# Altium footprint library Capacitors THD.PcbLib: 270 footprints (part 8 of 17)
Each footprint in its own frame and in the unit in brackets; x right, y up, seen from the top. Pads: shape width x height; smd on the part's side, far side on the other; paste and mask are expansions set on the pad; w line width, h text height; cw(c..) or ccw(c..) is an arc to the next point about the centre after c.
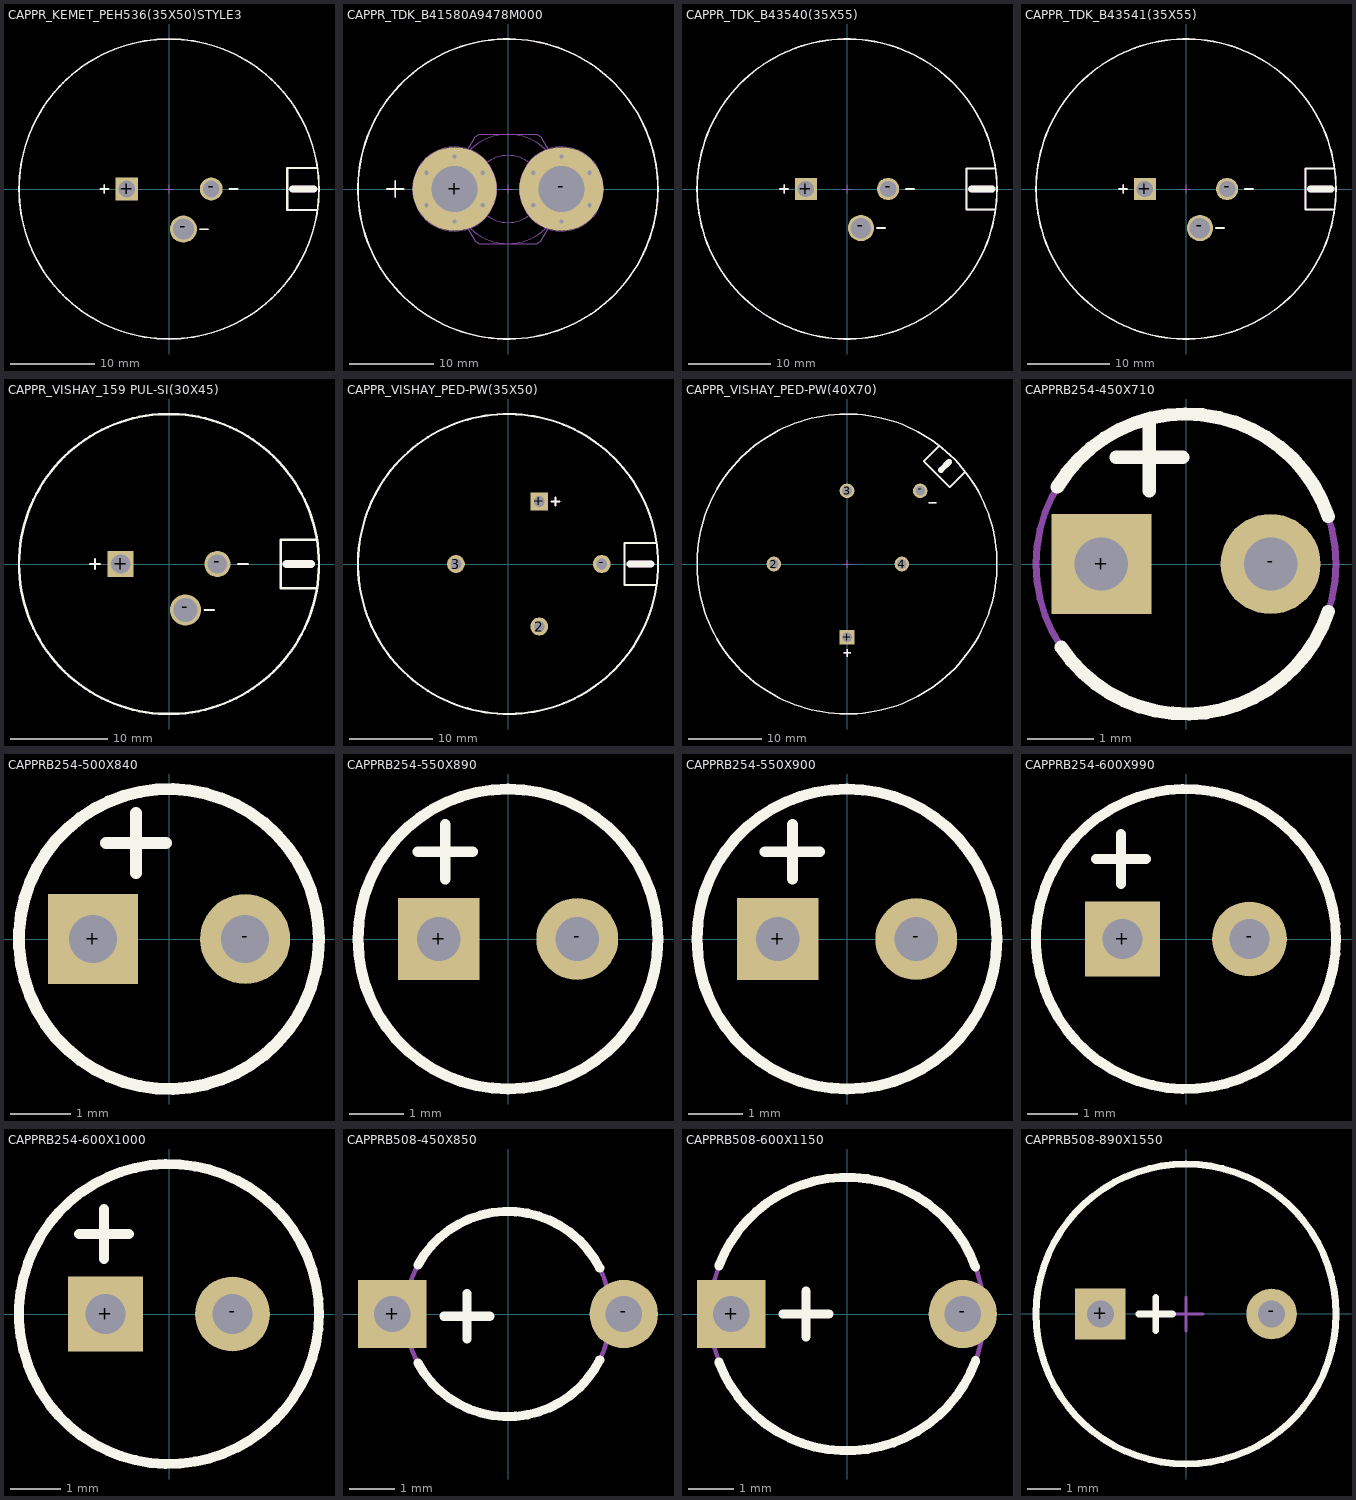
[diagram p7: the footprints below, top view; thin cyan lines are the x and y axes]

## CAPPR_KEMET_PEH536(35X50)STYLE3 [mm] "Capacitor, Radial, 3 Pins spacing 10mm and 4.75mm - Body Diameter 35.5mm X Body  Height 51.0mm"
height 51
pads (3):
  rect 2.7x2.7 hole 2: +(-5,0)
  round 3.2 hole 2.5: -(1.7,-4.75)
  round 2.7 hole 2: -(5,0)
Top Overlay:
  circle w0.2: c0,0 r17.75
  lines w0.2: -8.15,0 -7.15,0 ; -7.65,-0.5 -7.65,0.5 ; 3.65,-4.75 4.65,-4.75 ; 7.15,0 8.15,0
  lines w0.254: 17.525,-2.5 14,-2.5 14,2.5 17.525,2.5
  lines w0.8: 14.619,0 17.159,0
Mechanical 8:
  lines w0.1: -0.5,0 0,0 ; 0,-0.5 0,0 ; 0,0.5 0,0 ; 0.5,0 0,0
Mechanical 14:
  circle w0.1: c0,0 r17.75
  lines w0.1: -8.15,0 -7.15,0 ; -7.65,-0.5 -7.65,0.5 ; 3.65,-4.75 4.65,-4.75 ; 7.15,0 8.15,0 ; 17.55,-2.5 14,-2.5 14,2.5 17.55,2.5
  lines w0.8: 14.619,0 17.159,0
3D body "CAPPR_KEMET_PEH536(35X50)STYLE3.stp": height 51, standoff -4, extent -17.72,-17.737 17.747,17.739

## CAPPR_TDK_B41580A9478M000 [mm] "Radial Capacitor with Screw Terminals, Leads spacing 12.7mm - Body Diameter 35.7mm X Body  Height 106.7mm"
height 126.2
pads (2):
  round 10 hole 5.5: +(-6.35,0) -(6.35,0)
via -9.706,1.938 diameter 1 hole 0.5
via -6.35,3.875 diameter 1 hole 0.5
via -2.994,1.938 diameter 1 hole 0.5
via -2.994,-1.938 diameter 1 hole 0.5
via -6.35,-3.875 diameter 1 hole 0.5
via -9.706,-1.938 diameter 1 hole 0.5
via 2.994,1.938 diameter 1 hole 0.5
via 6.35,3.875 diameter 1 hole 0.5
via 9.706,1.938 diameter 1 hole 0.5
via 9.706,-1.938 diameter 1 hole 0.5
via 6.35,-3.875 diameter 1 hole 0.5
via 2.994,-1.938 diameter 1 hole 0.5
Top Overlay:
  circle w0.2: c0,0 r17.85
  lines w0.2: -14.425,0 -12.425,0 ; -13.425,-1 -13.425,1
Mechanical 8:
  circle w0.1: c-6.35,0 r2.75
  circle w0.1: c-6.35,0 r5
  circle w0.1: c6.35,0 r2.75
  circle w0.1: c6.35,0 r5
  lines w0.1: -10.139,-2.188 -9.706,-1.938 ; -10.139,2.188 -9.706,1.938 ; -9.956,-1.504 -9.706,-1.938 ; -9.956,1.504 -9.706,1.938 ; -9.456,-2.371 -9.706,-1.938 ; -9.456,2.371 -9.706,1.938 ; -9.273,-1.687 -9.706,-1.938 ; -9.273,1.687 -9.706,1.938 ; -6.85,-3.875 -6.35,-3.875 ; -6.85,3.875 -6.35,3.875 ; -6.35,-4.375 -6.35,-3.875 ; -6.35,-3.375 -6.35,-3.875 ; -6.35,3.375 -6.35,3.875 ; -6.35,4.375 -6.35,3.875 ; -5.85,-3.875 -6.35,-3.875 ; -5.85,3.875 -6.35,3.875 ; -3.427,-1.687 -2.994,-1.938 ; -3.427,1.687 -2.994,1.938 ; -3.244,-2.371 -2.994,-1.938 ; -3.244,2.371 -2.994,1.938 ; -2.744,-1.504 -2.994,-1.938 ; -2.744,1.504 -2.994,1.938 ; -2.561,-2.188 -2.994,-1.938 ; -2.561,2.188 -2.994,1.938 ; -0.5,0 0,0 ; 0,-0.5 0,0 ; 0,0.5 0,0 ; 0.5,0 0,0 ; 2.561,-2.188 2.994,-1.938 ; 2.561,2.188 2.994,1.938 ; 2.744,-1.504 2.994,-1.938 ; 2.744,1.504 2.994,1.938 ; 3.244,-2.371 2.994,-1.938 ; 3.244,2.371 2.994,1.938 ; 3.427,-1.687 2.994,-1.938 ; 3.427,1.687 2.994,1.938 ; 5.85,-3.875 6.35,-3.875 ; 5.85,3.875 6.35,3.875 ; 6.35,-4.375 6.35,-3.875 ; 6.35,-3.375 6.35,-3.875 ; 6.35,3.375 6.35,3.875 ; 6.35,4.375 6.35,3.875 ; 6.85,-3.875 6.35,-3.875 ; 6.85,3.875 6.35,3.875 ; 9.273,-1.687 9.706,-1.938 ; 9.273,1.687 9.706,1.938 ; 9.456,-2.371 9.706,-1.938 ; 9.456,2.371 9.706,1.938 ; 9.956,-1.504 9.706,-1.938 ; 9.956,1.504 9.706,1.938 ; 10.139,-2.188 9.706,-1.938 ; 10.139,2.188 9.706,1.938 ; -6.35,0 -6.35,0.5 -6.35,0 ; -6.35,0 -6.85,0 -6.35,0 ; -6.35,0 -6.35,-0.5 -6.35,0 ; -6.35,0 -5.85,0 -6.35,0 ; 6.35,0 6.35,0.5 6.35,0 ; 6.35,0 5.85,0 6.35,0 ; 6.35,0 6.35,-0.5 6.35,0 ; 6.35,0 6.85,0 6.35,0
Mechanical 14:
  circle w0.1: c0,0 r4
  circle w0.1: c0,0 r6.5
  circle w0.1: c0,0 r17.85
  lines w0.1: -14.425,0 -12.425,0 ; -13.425,-1 -13.425,1 ; -7.339,-0.288 -3.919,-6.212 -3.42,-6.5 3.42,-6.5 3.919,-6.212 7.339,-0.288 7.339,0.288 3.919,6.212 3.42,6.5 -3.42,6.5 -3.919,6.212 -7.339,0.288 -7.339,-0.288
3D body "CAPPR_TDK_B41580A9478M000_Part1.stp": height 126.2, standoff 0, extent -17.85,-17.752 17.85,17.752
3D body "CAPPR_TDK_B41580A9478M000_Part2.stp": height 10.4, standoff -5.27, extent -11.1,-4.75 11.1,4.75

## CAPPR_TDK_B43540(35X55) [mm] "Capacitor, Radial, 3 Pins spacing 10mm and 4.75mm - Body Diameter 35mm X Body  Height 55mm"
height 57.2
pads (3):
  rect 2.7x2.7 hole 2: +(-5,0)
  round 3.2 hole 2.5: -(1.7,-4.75)
  round 2.7 hole 2: -(5,0)
Top Overlay:
  circle w0.2: c0,0 r18.25
  lines w0.2: -8.15,0 -7.15,0 ; -7.65,-0.5 -7.65,0.5 ; 3.65,-4.75 4.65,-4.75 ; 7.15,0 8.15,0
  lines w0.254: 18.05,-2.5 14.525,-2.5 14.525,2.5 18.05,2.5
  lines w0.8: 15.144,0 17.684,0
Mechanical 8:
  lines w0.1: -0.5,0 0,0 ; 0,-0.5 0,0 ; 0,0.5 0,0 ; 0.5,0 0,0
Mechanical 14:
  circle w0.1: c0,0 r18.25
  lines w0.1: -8.15,0 -7.15,0 ; -7.65,-0.5 -7.65,0.5 ; 3.65,-4.75 4.65,-4.75 ; 7.15,0 8.15,0 ; 18.075,-2.5 14.525,-2.5 14.525,2.5 18.075,2.5
  lines w0.8: 15.144,0 17.684,0
3D body "CAPPR_TDK_B43540(35X55).stp": height 57.2, standoff -4, extent -18.25,-18.241 18.25,18.241

## CAPPR_TDK_B43541(35X55) [mm] "Capacitor, Radial, 3 Pins spacing 10mm and 4.75mm - Body Diameter 35mm X Body Height 55mm"
height 57.2
pads (3):
  rect 2.7x2.7 hole 2: +(-5,0)
  round 3.2 hole 2.5: -(1.7,-4.75)
  round 2.7 hole 2: -(5,0)
Top Overlay:
  circle w0.2: c0,0 r18.25
  lines w0.2: -8.15,0 -7.15,0 ; -7.65,-0.5 -7.65,0.5 ; 3.65,-4.75 4.65,-4.75 ; 7.15,0 8.15,0
  lines w0.254: 18.05,-2.5 14.525,-2.5 14.525,2.5 18.05,2.5
  lines w0.8: 15.144,0 17.684,0
Mechanical 8:
  lines w0.1: -0.5,0 0,0 ; 0,-0.5 0,0 ; 0,0.5 0,0 ; 0.5,0 0,0
Mechanical 14:
  circle w0.1: c0,0 r18.25
  lines w0.1: -8.15,0 -7.15,0 ; -7.65,-0.5 -7.65,0.5 ; 3.65,-4.75 4.65,-4.75 ; 7.15,0 8.15,0 ; 18.075,-2.5 14.525,-2.5 14.525,2.5 18.075,2.5
  lines w0.8: 15.144,0 17.684,0
3D body "CAPPR_TDK_B43541(35X55).stp": height 57.2, standoff -4, extent -18.25,-18.25 18.25,18.25

## CAPPR_VISHAY_159 PUL-SI(30X45) [mm] "Capacitor, Radial, 3 Pins Spacing 10mm and 4.75mm - Body Diameter 31.0mm X Body  Height 47.0mm"
height 47
pads (3):
  rect 2.7x2.7 hole 2: +(-5,0)
  round 3.2 hole 2.5: -(1.7,-4.75)
  round 2.7 hole 2: -(5,0)
Top Overlay:
  circle w0.254: c0,0 r15.5
  lines w0.2: -8.15,0 -7.15,0 ; -7.65,-0.5 -7.65,0.5 ; 3.65,-4.75 4.65,-4.75 ; 7.15,0 8.15,0
  lines w0.254: 15.275,-2.5 11.525,-2.5 11.525,2.5 15.275,2.5
  lines w0.8: 12.144,0 14.684,0
Mechanical 14:
  circle w0.1: c0,0 r15.5
  lines w0.1: -8.15,0 -7.15,0 ; -7.65,-0.5 -7.65,0.5 ; 3.65,-4.75 4.65,-4.75 ; 7.15,0 8.15,0 ; 15.275,-2.5 11.525,-2.5 11.525,2.5 15.275,2.5
  lines w0.8: 12.144,0 14.684,0
3D body "CAPPR_VISHAY_159 PUL-SI(30X45).stp": height 47, standoff -4, extent -15.5,-15.461 15.5,15.462

## CAPPR_VISHAY_PED-PW(35X50) [mm] "Capacitor, Radial, 4 Pins spacing 15mm and 17.5mm - Body Diameter 36.0mm X Body  Height 55.0mm"
height 55
pads (4):
  round 2.15 hole 1.3: 2(3.75,-7.5) 3(-6.25,0) -(11.25,0)
  rect 2.15x2.15 hole 1.3: +(3.75,7.5)
Top Overlay:
  circle w0.254: c0,0 r18
  lines w0.2: 5.2,7.5 6.2,7.5 ; 5.7,7 5.7,8
  lines w0.254: 17.75,-2.5 14,-2.5 14,2.5 17.75,2.5
  lines w0.8: 14.619,0 17.159,0
Mechanical 14:
  circle w0.1: c0,0 r18
  lines w0.1: 5.2,7.5 6.2,7.5 ; 5.7,7 5.7,8 ; 17.75,-2.5 14,-2.5 14,2.5 17.75,2.5
  lines w0.8: 14.619,0 17.159,0
3D body "CAPPR_VISHAY_PED-PW(35X50).stp": height 55, standoff -3.2, extent -18,-18 17.997,18

## CAPPR_VISHAY_PED-PW(40X70) [mm] "Capacitor, Radial, 5 Leads - Body Diameter 40.0mm X Body  Height 70mm"
height 75
pads (5):
  round 2 hole 1.3: 2(-10,0) 3(0,10) 4(7.5,0) -(10,10)
  rect 2x2 hole 1.3: +(0,-10)
Top Overlay:
  circle w0.2: c0,0 r20.5
  lines w0.2: -0.475,-12.15 0.525,-12.15 ; 0.025,-12.65 0.025,-11.65 ; 11.175,8.4 12.175,8.4
  lines w0.254: 12.595,16.13 10.494,14.03 14.03,10.494 16.13,12.595
  lines w0.8: 12.834,12.834 13.965,13.965
Mechanical 8:
  lines w0.1: -10.5,0 -10,0 ; -10,-0.5 -10,0 ; -10,0.5 -10,0 ; -9.5,0 -10,0 ; -0.5,-10 0,-10 ; -0.5,0 0,0 ; -0.5,10 0,10 ; 0,-10.5 0,-10 ; 0,-9.5 0,-10 ; 0,-0.5 0,0 ; 0,0.5 0,0 ; 0,9.5 0,10 ; 0,10.5 0,10 ; 0.5,-10 0,-10 ; 0.5,0 0,0 ; 0.5,10 0,10 ; 7,0 7.5,0 ; 7.5,-0.5 7.5,0 ; 7.5,0.5 7.5,0 ; 8,0 7.5,0 ; 9.5,10 10,10 ; 10,9.5 10,10 ; 10,10.5 10,10 ; 10.5,10 10,10
Mechanical 14:
  circle w0.1: c0,0 r20.5
  lines w0.1: -0.475,-12.15 0.525,-12.15 ; 0.025,-12.65 0.025,-11.65 ; 11.175,8.4 12.175,8.4 ; 12.622,16.157 10.494,14.03 14.03,10.494 16.157,12.622
  lines w0.8: 12.834,12.834 13.965,13.965
3D body "CAPPR_VISHAY_PED-PW(40X70).stp": height 75, standoff -4, extent -20.5,-20.459 20.5,20.46

## CAPPRB254-450X710 [mm] "Capacitor, Polarized Radial Bead, Pin spacing 2.54mm - Body Diameter 4.5mm X Body Height 7.1mm"
height 4.5
pads (2):
  rect 1.5x1.5 hole 0.8: +(-1.27,0)
  round 1.5 hole 0.8: -(1.27,0)
Top Overlay:
  lines w0.2: -1.931,1.154 cw(c0,0) 2.135,0.712 ; -1.872,-1.248 ccw(c0,0) 2.135,-0.712 ; -1.05,1.6 -0.05,1.6 ; -0.55,1.1 -0.55,2.1
Mechanical 14:
  circle w0.1: c0,0 r2.25
  lines w0.1: -1.05,1.6 -0.05,1.6 ; -0.55,1.1 -0.55,2.1
3D body "CAPPRB254-450X710.stp": height 7.08, standoff -3.6, extent -2.246,-2.246 2.246,2.246

## CAPPRB254-500X840 [mm] "Capacitor, Polarized Radial Bead, Pin spacing 2.54mm - Body Diameter 5.5mm X Body Height 8.4mm"
height 8.4
pads (2):
  rect 1.5x1.5 hole 0.8: +(-1.27,0)
  round 1.5 hole 0.8: -(1.27,0)
Top Overlay:
  circle w0.2: c0,0 r2.5
  lines w0.2: -1.05,1.6 -0.05,1.6 ; -0.55,1.1 -0.55,2.1
Mechanical 14:
  circle w0.1: c0,0 r2.5
  lines w0.1: -1.05,1.6 -0.05,1.6 ; -0.55,1.1 -0.55,2.1
3D body "CAPPRB254-500X840.stp": height 8.4, standoff -3.6, extent -2.5,-2.5 2.5,2.5

## CAPPRB254-550X890 [mm] "Capacitor, Polarized Radial Bead, Pin spacing 2.54mm - Body Diameter 5.5mm X Body Height 8.9mm"
height 8.9
pads (2):
  rect 1.5x1.5 hole 0.8: +(-1.27,0)
  round 1.5 hole 0.8: -(1.27,0)
Top Overlay:
  circle w0.2: c0,0 r2.75
  lines w0.2: -1.65,1.6 -0.65,1.6 ; -1.15,1.1 -1.15,2.1
Mechanical 14:
  circle w0.1: c0,0 r2.75
  lines w0.1: -1.65,1.6 -0.65,1.6 ; -1.15,1.1 -1.15,2.1
3D body "CAPPRB254-550X890.stp": height 8.9, standoff -3.6, extent -2.75,-2.73 2.75,2.73

## CAPPRB254-550X900 [mm] "Capacitor, Polarized Radial Bead, Pin spacing 2.54mm - Body Diameter 5.5mm X Body Height 9mm"
height 9
pads (2):
  rect 1.5x1.5 hole 0.8: +(-1.27,0)
  round 1.5 hole 0.8: -(1.27,0)
Top Overlay:
  circle w0.2: c0,0 r2.75
  lines w0.2: -1.5,1.6 -0.5,1.6 ; -1,1.1 -1,2.1
Mechanical 14:
  circle w0.1: c0,0 r2.75
  lines w0.1: -1.5,1.6 -0.5,1.6 ; -1,1.1 -1,2.1
3D body "CAPPRB254-550X900.stp": height 9, standoff -3.6, extent -2.74,-2.74 2.76,2.72

## CAPPRB254-600X990 [mm] "Capacitor, Polarized Radial Bead, Pin spacing 2.54mm - Body Diameter 6.0mm X Body Height 9.9mm"
height 9.9
pads (2):
  rect 1.5x1.5 hole 0.8: +(-1.27,0)
  round 1.5 hole 0.8: -(1.27,0)
Top Overlay:
  circle w0.2: c0,0 r3
  lines w0.2: -1.8,1.6 -0.8,1.6 ; -1.3,1.1 -1.3,2.1
Mechanical 14:
  circle w0.1: c0,0 r3
  lines w0.1: -1.8,1.6 -0.8,1.6 ; -1.3,1.1 -1.3,2.1
3D body "CAPPRB254-600X990.stp": height 9.9, standoff -3.6, extent -3,-2.983 3,2.984

## CAPPRB254-600X1000 [mm] "Capacitor, Polarized Radial Bead, Pin spacing 2.54mm - Body Diameter 6.0mm X Body Height 10mm"
height 10
pads (2):
  rect 1.5x1.5 hole 0.8: +(-1.27,0)
  round 1.5 hole 0.8: -(1.27,0)
Top Overlay:
  circle w0.2: c0,0 r3
  lines w0.2: -1.8,1.6 -0.8,1.6 ; -1.3,1.1 -1.3,2.1
Mechanical 14:
  circle w0.1: c0,0 r3
  lines w0.1: -1.8,1.6 -0.8,1.6 ; -1.3,1.1 -1.3,2.1
3D body "CAPPRB254-600X1000.stp": height 10, standoff -3.6, extent -3,-3 3,3

## CAPPRB508-450X850 [mm] "Capacitor, Polarized Radial Bead, Pin spacing 5.08mm - Body Diameter 4.5mm X Body Height 8.5mm"
height 8.5
pads (2):
  rect 1.5x1.5 hole 0.8: +(-2.54,0)
  round 1.5 hole 0.8: -(2.54,0)
Top Overlay:
  lines w0.2: -1.976,-1.076 ccw(c0,0) 2.012,-1.006 ; -1.976,1.076 cw(c0,0) 2.012,1.006 ; -1.4,-0.05 -0.4,-0.05 ; -0.9,-0.55 -0.9,0.45
Mechanical 14:
  circle w0.1: c0,0 r2.25
  lines w0.1: -1.4,-0.05 -0.4,-0.05 ; -0.9,-0.55 -0.9,0.45
3D body "CAPPRB508-450X850.stp": height 8.97, standoff -2.91, extent -2.79,-2.246 2.79,2.246

## CAPPRB508-600X1150 [mm] "Capacitor, Polarized Radial Bead, Pin spacing 5.08mm - Body Diameter 6mm X Body Height 11.5mm"
height 11.5
pads (2):
  rect 1.5x1.5 hole 0.8: +(-2.54,0)
  round 1.5 hole 0.8: -(2.54,0)
Top Overlay:
  lines w0.2: -2.809,-1.053 ccw(c0,0) 2.819,-1.026 ; -2.809,1.053 cw(c0,0) 2.817,1.031 ; -1.4,0 -0.4,0 ; -0.9,-0.5 -0.9,0.5
Mechanical 14:
  circle w0.1: c0,0 r3
  lines w0.1: -1.4,0 -0.4,0 ; -0.9,-0.5 -0.9,0.5
3D body "CAPPRB508-600X1150.stp": height 11.79, standoff -2.91, extent -3,-2.984 3,2.984

## CAPPRB508-890X1550 [mm] "Capacitor, Polarized Radial Bead, Pin spacing 5.08mm - Body Diameter 8.9mm X Body Height 15.5mm"
height 15.5
pads (2):
  rect 1.5x1.5 hole 0.8: +(-2.54,0)
  round 1.5 hole 0.8: -(2.54,0)
Top Overlay:
  circle w0.2: c0,0 r4.45
  lines w0.2: -1.4,0 -0.4,0 ; -0.9,-0.5 -0.9,0.5
Mechanical 8:
  lines w0.1: -3.04,0 -2.54,0 ; -2.54,-0.5 -2.54,0 ; -2.54,0.5 -2.54,0 ; -2.04,0 -2.54,0 ; -0.5,0 0,0 ; 0,-0.5 0,0 ; 0,0.5 0,0 ; 0.5,0 0,0 ; 2.04,0 2.54,0 ; 2.54,-0.5 2.54,0 ; 2.54,0.5 2.54,0 ; 3.04,0 2.54,0
Mechanical 14:
  circle w0.1: c0,0 r4.45
  lines w0.1: -1.4,0 -0.4,0 ; -0.9,-0.5 -0.9,0.5
3D body "CAPPRB508-890X1550.stp": height 15.5, standoff -2.91, extent -4.45,-4.45 4.45,4.45